# Altium footprint library QFN.PcbLib: 84 footprints (part 5 of 6)
Each footprint in its own frame and in the unit in brackets; x right, y up, seen from the top. Pads: shape width x height; smd on the part's side, far side on the other; paste and mask are expansions set on the pad; w line width, h text height; cw(c..) or ccw(c..) is an arc to the next point about the centre after c.
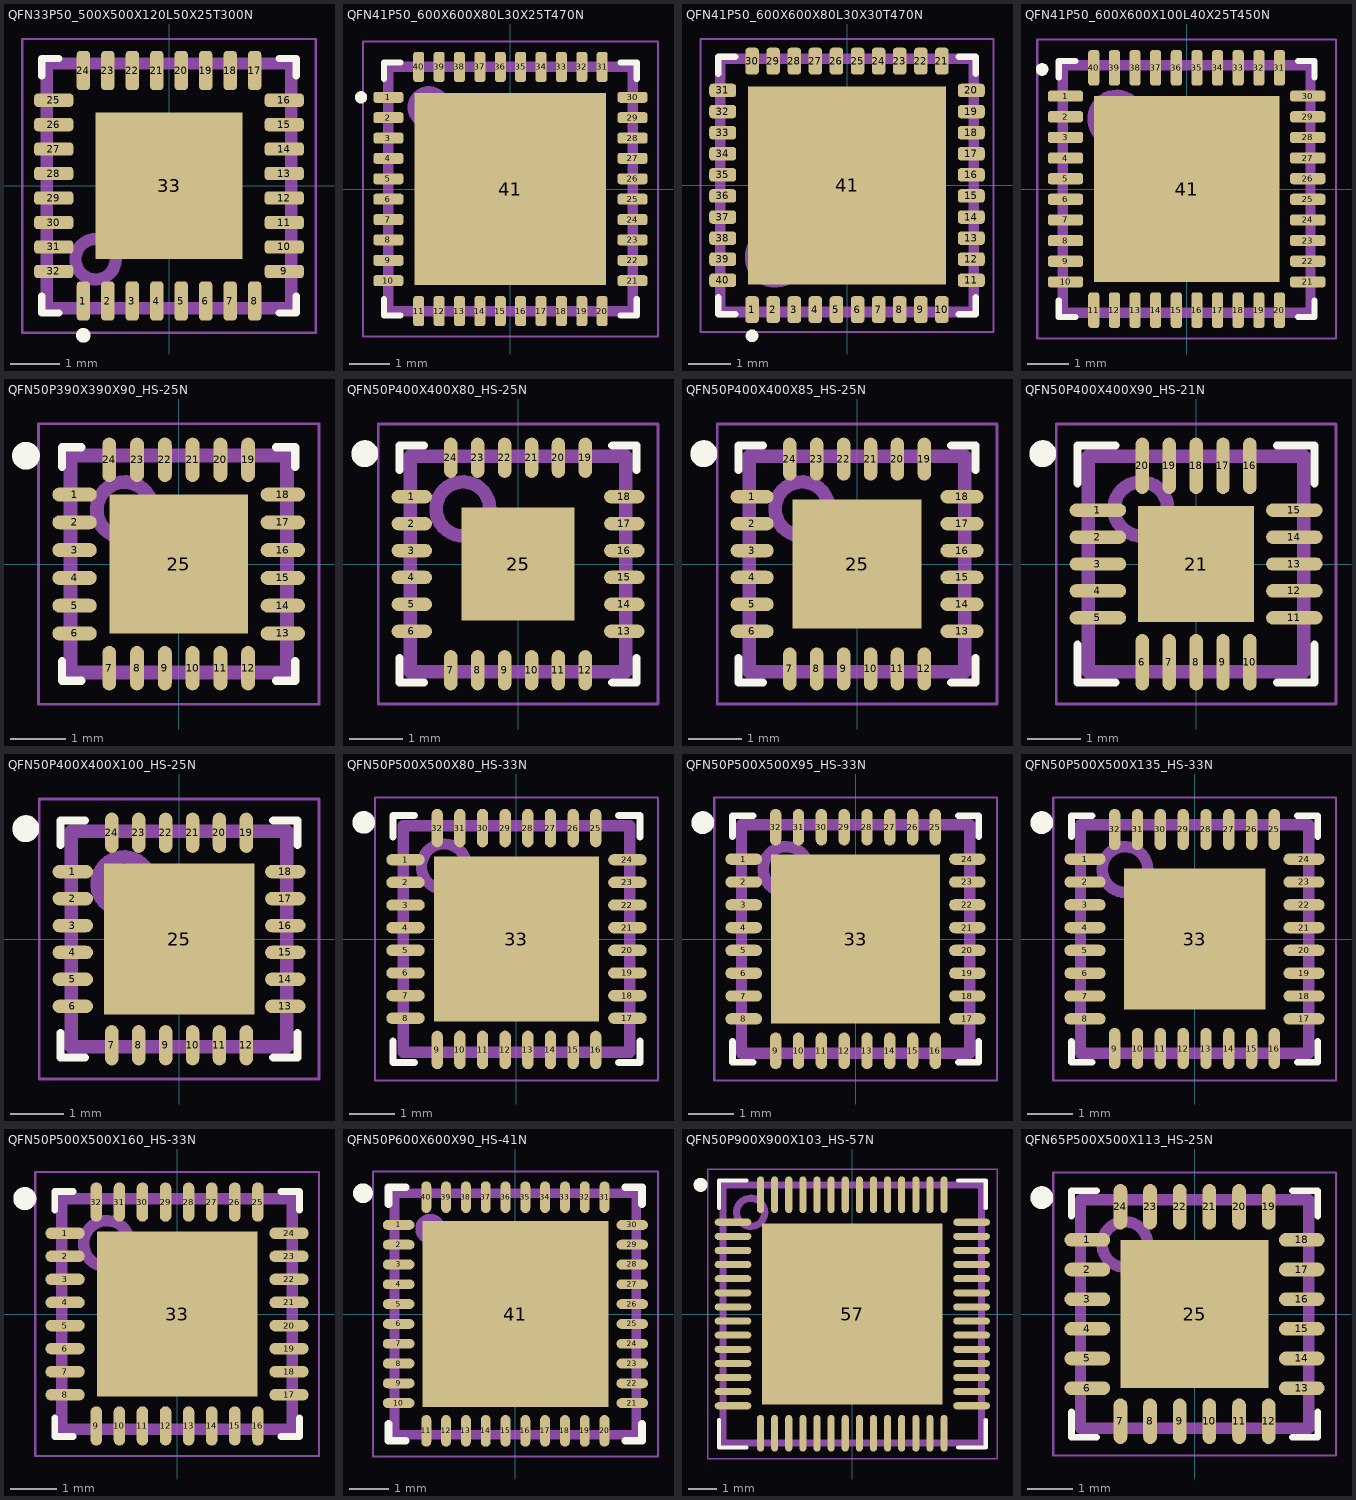
[diagram p4: the footprints below, top view; thin cyan lines are the x and y axes]

## QFN33P50_500X500X120L50X25T300N [mm] "Quad Flat No-Lead (QFN with Tab), 0.50 mm pitch; square, 8 pin X 8 pin, 5.00 mm L X 5.00 mm W X 1.20 mm H body"
height 1.2
pads (33):
  rrect52% 0.27x0.8 smd: 1(-1.75,-2.355) 2(-1.25,-2.355) 3(-0.75,-2.355) 4(-0.25,-2.355) 5(0.25,-2.355) 6(0.75,-2.355) 7(1.25,-2.355) 8(1.75,-2.355) 17(1.75,2.355) 18(1.25,2.355) 19(0.75,2.355) 20(0.25,2.355) 21(-0.25,2.355) 22(-0.75,2.355) 23(-1.25,2.355) 24(-1.75,2.355)
  rrect52% 0.8x0.27 smd: 9(2.355,-1.75) 10(2.355,-1.25) 11(2.355,-0.75) 12(2.355,-0.25) 13(2.355,0.25) 14(2.355,0.75) 15(2.355,1.25) 16(2.355,1.75) 25(-2.355,1.75) 26(-2.355,1.25) 27(-2.355,0.75) 28(-2.355,0.25) 29(-2.355,-0.25) 30(-2.355,-0.75) 31(-2.355,-1.25) 32(-2.355,-1.75)
  rect 3x3 smd paste-3: 33(0,0)
Top Overlay:
  circle w0.15: c-1.75,-3.055 r0.075
  lines w0.15: -2.6,-2.25 -2.6,-2.6 -2.25,-2.6 ; -2.6,2.25 -2.6,2.6 -2.25,2.6 ; 2.25,-2.6 2.6,-2.6 2.6,-2.25 ; 2.25,2.6 2.6,2.6 2.6,2.25
Top Paste:
  region: -0.22,0.22 -1.28,0.22 -1.28,1.28 -0.22,1.28
  region: -0.22,-1.28 -1.28,-1.28 -1.28,-0.22 -0.22,-0.22
  region: 1.28,0.22 0.22,0.22 0.22,1.28 1.28,1.28
  region: 1.28,-1.28 0.22,-1.28 0.22,-0.22 1.28,-0.22
Top Assembly:
  circle w0.25: c-1.5,-1.5 r0.412
  lines w0.25: -2.5,-2.5 2.5,-2.5 2.5,2.5 -2.5,2.5 -2.5,-2.5
  text ".Designator" at -3.378,-0.339 h1.5
Top Courtyard:
  circle w0.05: c0,0 r0.25
  lines w0.05: -0.35,0 0.35,0 ; 0,-0.35 0,0.35 ; -3,-3 3,-3 3,3 -3,3 -3,-3
3D body "QFN33P50_500X500X120L50X25T300.STEP": height 1.2, standoff 0, extent -2.55,-2.55 2.55,2.55

## QFN41P50_600X600X80L30X25T470N [mm] "Quad Flat No-Lead (QFN with Tab), 0.50 mm pitch; square, 10 pin X 10 pin, 6.00 mm L X 6.00 mm W X 0.80 mm H body"
height 0.8
pads (41):
  rrect52% 0.74x0.27 smd: 1(-2.995,2.25) 2(-2.995,1.75) 3(-2.995,1.25) 4(-2.995,0.75) 5(-2.995,0.25) 6(-2.995,-0.25) 7(-2.995,-0.75) 8(-2.995,-1.25) 9(-2.995,-1.75) 10(-2.995,-2.25) 21(2.995,-2.25) 22(2.995,-1.75) 23(2.995,-1.25) 24(2.995,-0.75) 25(2.995,-0.25) 26(2.995,0.25) 27(2.995,0.75) 28(2.995,1.25) 29(2.995,1.75) 30(2.995,2.25)
  rrect52% 0.27x0.74 smd: 11(-2.25,-2.995) 12(-1.75,-2.995) 13(-1.25,-2.995) 14(-0.75,-2.995) 15(-0.25,-2.995) 16(0.25,-2.995) 17(0.75,-2.995) 18(1.25,-2.995) 19(1.75,-2.995) 20(2.25,-2.995) 31(2.25,2.995) 32(1.75,2.995) 33(1.25,2.995) 34(0.75,2.995) 35(0.25,2.995) 36(-0.25,2.995) 37(-0.75,2.995) 38(-1.25,2.995) 39(-1.75,2.995) 40(-2.25,2.995)
  rect 4.7x4.7 smd paste-4.7: 41(0,0)
Top Overlay:
  circle w0.15: c-3.665,2.25 r0.075
  lines w0.15: -3.1,-2.7 -3.1,-3.1 -2.7,-3.1 ; -3.1,2.7 -3.1,3.1 -2.7,3.1 ; 2.7,-3.1 3.1,-3.1 3.1,-2.7 ; 2.7,3.1 3.1,3.1 3.1,2.7
Top Paste:
  region: 0.345,0.345 0.345,2.005 2.005,2.005 2.005,0.345
  region: -2.005,0.345 -2.005,2.005 -0.345,2.005 -0.345,0.345
  region: 0.345,-2.005 0.345,-0.345 2.005,-0.345 2.005,-2.005
  region: -2.005,-2.005 -2.005,-0.345 -0.345,-0.345 -0.345,-2.005
Top Assembly:
  circle w0.25: c-2,2 r0.4
  lines w0.25: -3,-3 3,-3 3,3 -3,3 -3,-3
  text ".Designator" at -3.378,-0.339 h1.5
Top Courtyard:
  circle w0.05: c0,0 r0.25
  lines w0.05: -0.35,0 0.35,0 ; 0,-0.35 0,0.35 ; -3.62,-3.62 3.62,-3.62 3.62,3.62 -3.62,3.62 -3.62,-3.62
3D body "QFN41P50_600X600X80L30X25T470.STEP": height 0.8, standoff 0, extent -3.05,-3.05 3.05,3.05

## QFN41P50_600X600X80L30X30T470N [mm] "Quad Flat No-Lead (QFN with Tab), 0.50 mm pitch; square, 10 pin X 10 pin, 6.00 mm L X 6.00 mm W X 0.80 mm H body"
height 0.8
pads (41):
  rrect50% 0.32x0.64 smd: 1(-2.25,-2.945) 2(-1.75,-2.945) 3(-1.25,-2.945) 4(-0.75,-2.945) 5(-0.25,-2.945) 6(0.25,-2.945) 7(0.75,-2.945) 8(1.25,-2.945) 9(1.75,-2.945) 10(2.25,-2.945) 21(2.25,2.945) 22(1.75,2.945) 23(1.25,2.945) 24(0.75,2.945) 25(0.25,2.945) 26(-0.25,2.945) 27(-0.75,2.945) 28(-1.25,2.945) 29(-1.75,2.945) 30(-2.25,2.945)
  rrect50% 0.64x0.32 smd: 11(2.945,-2.25) 12(2.945,-1.75) 13(2.945,-1.25) 14(2.945,-0.75) 15(2.945,-0.25) 16(2.945,0.25) 17(2.945,0.75) 18(2.945,1.25) 19(2.945,1.75) 20(2.945,2.25) 31(-2.945,2.25) 32(-2.945,1.75) 33(-2.945,1.25) 34(-2.945,0.75) 35(-2.945,0.25) 36(-2.945,-0.25) 37(-2.945,-0.75) 38(-2.945,-1.25) 39(-2.945,-1.75) 40(-2.945,-2.25)
  rect 4.7x4.7 smd paste-4.7: 41(0,0)
Top Overlay:
  circle w0.15: c-2.25,-3.565 r0.075
  lines w0.15: -3.05,-2.65 -3.05,-3.05 -2.65,-3.05 ; -3.05,2.65 -3.05,3.05 -2.65,3.05 ; 2.65,-3.05 3.05,-3.05 3.05,-2.65 ; 2.65,3.05 3.05,3.05 3.05,2.65
Top Paste:
  region: 2.005,-2.005 0.345,-2.005 0.345,-0.345 2.005,-0.345
  region: 2.005,0.345 0.345,0.345 0.345,2.005 2.005,2.005
  region: -0.345,-2.005 -2.005,-2.005 -2.005,-0.345 -0.345,-0.345
  region: -0.345,0.345 -2.005,0.345 -2.005,2.005 -0.345,2.005
Top Assembly:
  circle w0.25: c-1.7,-1.7 r0.6
  lines w0.25: -3,-3 -3,3 3,3 3,-3 -3,-3
  text ".Designator" at -2.3,-0.4 h1.5
Top Courtyard:
  circle w0.05: c0,0 r0.25
  lines w0.05: -0.35,0 0.35,0 ; 0,-0.35 0,0.35 ; -3.47,-3.47 -3.47,3.47 3.47,3.47 3.47,-3.47 -3.47,-3.47
3D body "QFN41P50_600X600X80L30X30T470.STEP": height 0.8, standoff 0, extent -3.05,-3.05 3.05,3.05

## QFN41P50_600X600X100L40X25T450N [mm] "Quad Flat No-Lead (QFN with Tab), 0.50 mm pitch; square, 10 pin X 10 pin, 6.00 mm L X 6.00 mm W X 1.00 mm H body"
height 1
pads (41):
  rrect52% 0.86x0.27 smd: 1(-2.935,2.25) 2(-2.935,1.75) 3(-2.935,1.25) 4(-2.935,0.75) 5(-2.935,0.25) 6(-2.935,-0.25) 7(-2.935,-0.75) 8(-2.935,-1.25) 9(-2.935,-1.75) 10(-2.935,-2.25) 21(2.935,-2.25) 22(2.935,-1.75) 23(2.935,-1.25) 24(2.935,-0.75) 25(2.935,-0.25) 26(2.935,0.25) 27(2.935,0.75) 28(2.935,1.25) 29(2.935,1.75) 30(2.935,2.25)
  rrect52% 0.27x0.86 smd: 11(-2.25,-2.935) 12(-1.75,-2.935) 13(-1.25,-2.935) 14(-0.75,-2.935) 15(-0.25,-2.935) 16(0.25,-2.935) 17(0.75,-2.935) 18(1.25,-2.935) 19(1.75,-2.935) 20(2.25,-2.935) 31(2.25,2.935) 32(1.75,2.935) 33(1.25,2.935) 34(0.75,2.935) 35(0.25,2.935) 36(-0.25,2.935) 37(-0.75,2.935) 38(-1.25,2.935) 39(-1.75,2.935) 40(-2.25,2.935)
  rect 4.5x4.5 smd paste-4.5: 41(0,0)
Top Overlay:
  region: -3.5,3.05 -3.47,3.05 -3.415,3.027 -3.373,2.985 -3.35,2.93 -3.35,2.9 -3.35,2.87 -3.373,2.815 -3.415,2.773 -3.47,2.75 -3.5,2.75 -3.53,2.75 -3.585,2.773 -3.627,2.815 -3.65,2.87 -3.65,2.9 -3.65,2.93 -3.627,2.985 -3.585,3.027 -3.53,3.05
  lines w0.15: -3.1,-2.7 -3.1,-3.1 -2.7,-3.1 ; -3.1,2.7 -3.1,3.1 -2.7,3.1 ; 2.7,-3.1 3.1,-3.1 3.1,-2.7 ; 2.7,3.1 3.1,3.1 3.1,2.7
Top Paste:
  region: -1.92,-1.92 -1.92,-0.33 -0.33,-0.33 -0.33,-1.92
  region: 0.33,-1.92 0.33,-0.33 1.92,-0.33 1.92,-1.92
  region: -1.92,0.33 -1.92,1.92 -0.33,1.92 -0.33,0.33
  region: 0.33,0.33 0.33,1.92 1.92,1.92 1.92,0.33
Top Assembly:
  circle w0.25: c-1.7,1.7 r0.583
  lines w0.25: -3,-3 -3,3 3,3 3,-3 -3,-3
  text ".Designator" at -2.704,-0.271 h1.2
Top Courtyard:
  circle w0.05: c0,0 r0.25
  lines w0.05: -0.35,0 0.35,0 ; 0,-0.35 0,0.35 ; -3.62,-3.62 -3.62,3.62 3.62,3.62 3.62,-3.62 -3.62,-3.62
3D body "QFN41P50_600X600X100L40X25T450.STEP": height 1, standoff 0, extent -3.05,-3.05 3.05,3.05

## QFN50P390X390X90_HS-25N [mm] "QFN, 24-Leads, Body 3.90x3.90mm, Pitch 0.50mm, Thermal Pad 2.50x2.50mm, IPC Medium Density"
height 0.9
pads (25):
  oval 0.8x0.25 smd: 1(-1.875,1.25) 2(-1.875,0.75) 3(-1.875,0.25) 4(-1.875,-0.25) 5(-1.875,-0.75) 6(-1.875,-1.25) 13(1.875,-1.25) 14(1.875,-0.75) 15(1.875,-0.25) 16(1.875,0.25) 17(1.875,0.75) 18(1.875,1.25)
  oval 0.25x0.8 smd: 7(-1.25,-1.875) 8(-0.75,-1.875) 9(-0.25,-1.875) 10(0.25,-1.875) 11(0.75,-1.875) 12(1.25,-1.875) 19(1.25,1.875) 20(0.75,1.875) 21(0.25,1.875) 22(-0.25,1.875) 23(-0.75,1.875) 24(-1.25,1.875)
  rect 2.5x2.5 smd: 25(0,0)
Top Overlay:
  circle w0.25: c-2.75,1.95 r0.125
  lines w0.15: -2.1,-1.75 -2.1,-2.1 -1.75,-2.1 ; -2.1,1.75 -2.1,2.1 -1.75,2.1 ; 1.75,-2.1 2.1,-2.1 2.1,-1.75 ; 1.75,2.1 2.1,2.1 2.1,1.75
Top Assembly:
  circle w0.25: c-0.975,0.975 r0.5
  lines w0.25: -1.95,-1.95 1.95,-1.95 1.95,1.95 -1.95,1.95 -1.95,-1.95
  text ".Designator" at -1,-0.718 h1.5
Top Courtyard:
  circle w0.05: c0,0 r0.3
  lines w0.05: -0.5,0 0.5,0 ; 0,-0.5 0,0.5 ; -2.525,-2.525 2.525,-2.525 2.525,2.525 -2.525,2.525 -2.525,-2.525
3D body "QFN50P390X390X90_HS-25N.step": height 0.9, standoff 0, extent -1.951,-1.951 1.951,1.951

## QFN50P400X400X80_HS-25N [mm] "QFN, 24-Leads, Body 4.00x4.00mm, Pitch 0.50mm, Thermal Pad 2.05x2.05mm, IPC Medium Density"
height 0.8
pads (25):
  oval 0.75x0.25 smd: 1(-1.975,1.25) 2(-1.975,0.75) 3(-1.975,0.25) 4(-1.975,-0.25) 5(-1.975,-0.75) 6(-1.975,-1.25) 13(1.975,-1.25) 14(1.975,-0.75) 15(1.975,-0.25) 16(1.975,0.25) 17(1.975,0.75) 18(1.975,1.25)
  oval 0.25x0.75 smd: 7(-1.25,-1.975) 8(-0.75,-1.975) 9(-0.25,-1.975) 10(0.25,-1.975) 11(0.75,-1.975) 12(1.25,-1.975) 19(1.25,1.975) 20(0.75,1.975) 21(0.25,1.975) 22(-0.25,1.975) 23(-0.75,1.975) 24(-1.25,1.975)
  rect 2.1x2.1 smd: 25(0,0)
Top Overlay:
  circle w0.25: c-2.85,2.05 r0.125
  lines w0.15: -2.2,-1.75 -2.2,-2.2 -1.75,-2.2 ; -2.2,1.75 -2.2,2.2 -1.75,2.2 ; 1.75,-2.2 2.2,-2.2 2.2,-1.75 ; 1.75,2.2 2.2,2.2 2.2,1.75
Top Assembly:
  circle w0.25: c-1.025,1.025 r0.5
  lines w0.25: -2,-2 -2,2 2,2 2,-2 -2,-2
  text ".Designator" at -1.375,-0.843 h1.5
Top Courtyard:
  circle w0.05: c0,0 r0.35
  lines w0.05: -0.5,0 0.5,0 ; 0,-0.5 0,0.5 ; -2.6,-2.6 -2.6,2.6 2.6,2.6 2.6,-2.6 -2.6,-2.6
3D body "QFN50P400X400X80_HS-25N.step": height 0.8, standoff 0, extent -2.02,-2.02 2.02,2.02

## QFN50P400X400X85_HS-25N [mm] "QFN, 24-Leads, Body 4.00x4.00mm, Pitch 0.50mm, Thermal Pad 2.40x2.40mm, IPC Medium Density"
height 0.85
pads (25):
  oval 0.8x0.25 smd: 1(-1.95,1.25) 2(-1.95,0.75) 3(-1.95,0.25) 4(-1.95,-0.25) 5(-1.95,-0.75) 6(-1.95,-1.25) 13(1.95,-1.25) 14(1.95,-0.75) 15(1.95,-0.25) 16(1.95,0.25) 17(1.95,0.75) 18(1.95,1.25)
  oval 0.25x0.8 smd: 7(-1.25,-1.95) 8(-0.75,-1.95) 9(-0.25,-1.95) 10(0.25,-1.95) 11(0.75,-1.95) 12(1.25,-1.95) 19(1.25,1.95) 20(0.75,1.95) 21(0.25,1.95) 22(-0.25,1.95) 23(-0.75,1.95) 24(-1.25,1.95)
  rect 2.4x2.4 smd: 25(0,0)
Top Overlay:
  circle w0.25: c-2.85,2.05 r0.125
  lines w0.15: -2.2,-1.75 -2.2,-2.2 -1.75,-2.2 ; -2.2,1.75 -2.2,2.2 -1.75,2.2 ; 1.75,-2.2 2.2,-2.2 2.2,-1.75 ; 1.75,2.2 2.2,2.2 2.2,1.75
Top Assembly:
  circle w0.25: c-1.025,1.025 r0.5
  lines w0.25: -2,-2 2,-2 2,2 -2,2 -2,-2
  text ".Designator" at -3.378,-0.339 h1.5
Top Courtyard:
  lines w0.05: -2.6,-2.6 2.6,-2.6 2.6,2.6 -2.6,2.6 -2.6,-2.6
  lines w0.1: -0.5,0 0.5,0 ; 0,-0.5 0,0.5
3D body "QFN50P400X400X85_HS-25N.step": height 0.85, standoff 0, extent -2.001,-2.001 2.001,2.001

## QFN50P400X400X90_HS-21N [mm] "QFN, 20-Leads, Body 4,00x4,00mm, Pitch 0,50mm, Thermal Pad 2,15x2,15mm, IPC Medium Density"
height 0.9
pads (21):
  oval 1.05x0.25 smd: 1(-1.825,1) 2(-1.825,0.5) 3(-1.825,0) 4(-1.825,-0.5) 5(-1.825,-1) 11(1.825,-1) 12(1.825,-0.5) 13(1.825,0) 14(1.825,0.5) 15(1.825,1)
  oval 0.25x1.05 smd: 6(-1,-1.825) 7(-0.5,-1.825) 8(0,-1.825) 9(0.5,-1.825) 10(1,-1.825) 16(1,1.825) 17(0.5,1.825) 18(0,1.825) 19(-0.5,1.825) 20(-1,1.825)
  rect 2.15x2.15 smd: 21(0,0)
Top Overlay:
  circle w0.25: c-2.85,2.05 r0.125
  lines w0.15: -2.2,-1.5 -2.2,-2.2 -1.5,-2.2 ; -2.2,1.5 -2.2,2.2 -1.5,2.2 ; 1.5,-2.2 2.2,-2.2 2.2,-1.5 ; 1.5,2.2 2.2,2.2 2.2,1.5
Top Assembly:
  circle w0.25: c-1.025,1.025 r0.5
  lines w0.25: -2,-2 2,-2 2,2 -2,2 -2,-2
  text ".Designator" at -3.378,-0.339 h1.5
Top Courtyard:
  lines w0.05: -2.6,-2.6 2.6,-2.6 2.6,2.6 -2.6,2.6 -2.6,-2.6
  lines w0.1: -0.5,0 0.5,0 ; 0,-0.5 0,0.5
3D body "QFN50P400X400X90_HS-21N.step": height 0.9, standoff 0, extent -2.001,-2.001 2.001,2.001

## QFN50P400X400X100_HS-25N [mm] "QFN, 24-Leads, Body 4.00x4.00mm, Pitch 0.50mm, Thermal Pad 2.80x2.80mm, IPC Medium Density"
height 1
pads (25):
  oval 0.75x0.25 smd: 1(-1.975,1.25) 2(-1.975,0.75) 3(-1.975,0.25) 4(-1.975,-0.25) 5(-1.975,-0.75) 6(-1.975,-1.25) 13(1.975,-1.25) 14(1.975,-0.75) 15(1.975,-0.25) 16(1.975,0.25) 17(1.975,0.75) 18(1.975,1.25)
  oval 0.25x0.75 smd: 7(-1.25,-1.975) 8(-0.75,-1.975) 9(-0.25,-1.975) 10(0.25,-1.975) 11(0.75,-1.975) 12(1.25,-1.975) 19(1.25,1.975) 20(0.75,1.975) 21(0.25,1.975) 22(-0.25,1.975) 23(-0.75,1.975) 24(-1.25,1.975)
  rect 2.8x2.8 smd: 25(0,0)
Top Overlay:
  circle w0.25: c-2.85,2.05 r0.125
  lines w0.15: -2.2,-1.75 -2.2,-2.2 -1.75,-2.2 ; -2.2,1.75 -2.2,2.2 -1.75,2.2 ; 1.75,-2.2 2.2,-2.2 2.2,-1.75 ; 1.75,2.2 2.2,2.2 2.2,1.75
Top Assembly:
  circle w0.25: c-1.025,1.025 r0.5
  lines w0.25: -2,-2 2,-2 2,2 -2,2 -2,-2
  text ".Designator" at -1.75,-0.843 h1.5
Top Courtyard:
  lines w0.05: -2.6,-2.6 2.6,-2.6 2.6,2.6 -2.6,2.6 -2.6,-2.6
  lines w0.1: -0.5,0 0.5,0 ; 0,-0.5 0,0.5
3D body "QFN50P400X400X100_HS-25N.step": height 1, standoff 0, extent -2.001,-2.001 2.001,2.001

## QFN50P500X500X80_HS-33N [mm] "QFN, 32-Leads, Body 5.00x5.00mm, Pitch 0.50mm, Thermal Pad 3.65x3.65mm, IPC Medium Density"
height 0.8
pads (33):
  oval 0.85x0.25 smd: 1(-2.45,1.75) 2(-2.45,1.25) 3(-2.45,0.75) 4(-2.45,0.25) 5(-2.45,-0.25) 6(-2.45,-0.75) 7(-2.45,-1.25) 8(-2.45,-1.75) 17(2.45,-1.75) 18(2.45,-1.25) 19(2.45,-0.75) 20(2.45,-0.25) 21(2.45,0.25) 22(2.45,0.75) 23(2.45,1.25) 24(2.45,1.75)
  oval 0.25x0.85 smd: 9(-1.75,-2.45) 10(-1.25,-2.45) 11(-0.75,-2.45) 12(-0.25,-2.45) 13(0.25,-2.45) 14(0.75,-2.45) 15(1.25,-2.45) 16(1.75,-2.45) 25(1.75,2.45) 26(1.25,2.45) 27(0.75,2.45) 28(0.25,2.45) 29(-0.25,2.45) 30(-0.75,2.45) 31(-1.25,2.45) 32(-1.75,2.45)
  rect 3.65x3.65 smd: 33(0,0)
Top Overlay:
  circle w0.25: c-3.375,2.575 r0.125
  lines w0.15: -2.725,-2.25 -2.725,-2.725 -2.25,-2.725 ; -2.725,2.25 -2.725,2.725 -2.25,2.725 ; 2.25,-2.725 2.725,-2.725 2.725,-2.25 ; 2.25,2.725 2.725,2.725 2.725,2.25
Top Assembly:
  circle w0.25: c-1.6,1.6 r0.5
  lines w0.25: -2.5,-2.5 -2.5,2.5 2.5,2.5 2.5,-2.5 -2.5,-2.5
  text ".Designator" at -1.6,-0.718 h1.5
Top Courtyard:
  circle w0.05: c0,0 r0.35
  lines w0.05: -0.5,0 0.5,0 ; 0,-0.5 0,0.5 ; -3.125,-3.125 3.125,-3.125 3.125,3.125 -3.125,3.125 -3.125,-3.125
3D body "QFN50P500X500X80_HS-33N.step": height 0.8, standoff 0, extent -2.576,-2.576 2.576,2.576

## QFN50P500X500X95_HS-33N [mm] "QFN, 32-Leads, Body 5.00x5.00mm, Pitch 0.50mm, Thermal Pad 3.70x3.70mm, IPC Medium Density"
height 0.95
pads (33):
  oval 0.8x0.25 smd: 1(-2.45,1.75) 2(-2.45,1.25) 3(-2.45,0.75) 4(-2.45,0.25) 5(-2.45,-0.25) 6(-2.45,-0.75) 7(-2.45,-1.25) 8(-2.45,-1.75) 17(2.45,-1.75) 18(2.45,-1.25) 19(2.45,-0.75) 20(2.45,-0.25) 21(2.45,0.25) 22(2.45,0.75) 23(2.45,1.25) 24(2.45,1.75)
  oval 0.25x0.8 smd: 9(-1.75,-2.45) 10(-1.25,-2.45) 11(-0.75,-2.45) 12(-0.25,-2.45) 13(0.25,-2.45) 14(0.75,-2.45) 15(1.25,-2.45) 16(1.75,-2.45) 25(1.75,2.45) 26(1.25,2.45) 27(0.75,2.45) 28(0.25,2.45) 29(-0.25,2.45) 30(-0.75,2.45) 31(-1.25,2.45) 32(-1.75,2.45)
  rect 3.7x3.7 smd paste+0 mask+0: 33(0,0)
Top Overlay:
  circle w0.25: c-3.35,2.55 r0.125
  lines w0.15: -2.7,-2.25 -2.7,-2.7 -2.25,-2.7 ; -2.7,2.25 -2.7,2.7 -2.25,2.7 ; 2.25,-2.7 2.7,-2.7 2.7,-2.25 ; 2.25,2.7 2.7,2.7 2.7,2.25
Top Assembly:
  circle w0.25: c-1.525,1.525 r0.5
  lines w0.25: -2.5,-2.5 2.5,-2.5 2.5,2.5 -2.5,2.5 -2.5,-2.5
  text ".Designator" at -3.378,-0.339 h1.5
Top Courtyard:
  lines w0.05: -0.5,0 0.5,0 ; 0,-0.5 0,0.5 ; -3.1,-3.1 3.1,-3.1 3.1,3.1 -3.1,3.1 -3.1,-3.1
3D body "QFN50P500X500X95_HS-33N.step": height 0.95, standoff 0, extent -2.501,-2.501 2.501,2.501

## QFN50P500X500X135_HS-33N [mm] "QFN, 32-Leads, Body 5.00x5.00mm, Pitch 0.50mm, Thermal Pad 3.10x3.10mm, IPC Medium Density"
height 1.35
pads (33):
  oval 0.9x0.25 smd: 1(-2.4,1.75) 2(-2.4,1.25) 3(-2.4,0.75) 4(-2.4,0.25) 5(-2.4,-0.25) 6(-2.4,-0.75) 7(-2.4,-1.25) 8(-2.4,-1.75) 17(2.4,-1.75) 18(2.4,-1.25) 19(2.4,-0.75) 20(2.4,-0.25) 21(2.4,0.25) 22(2.4,0.75) 23(2.4,1.25) 24(2.4,1.75)
  oval 0.25x0.9 smd: 9(-1.75,-2.4) 10(-1.25,-2.4) 11(-0.75,-2.4) 12(-0.25,-2.4) 13(0.25,-2.4) 14(0.75,-2.4) 15(1.25,-2.4) 16(1.75,-2.4) 25(1.75,2.4) 26(1.25,2.4) 27(0.75,2.4) 28(0.25,2.4) 29(-0.25,2.4) 30(-0.75,2.4) 31(-1.25,2.4) 32(-1.75,2.4)
  rect 3.1x3.1 smd: 33(0,0)
Top Overlay:
  circle w0.25: c-3.35,2.55 r0.125
  lines w0.15: -2.7,-2.25 -2.7,-2.7 -2.25,-2.7 ; -2.7,2.25 -2.7,2.7 -2.25,2.7 ; 2.25,-2.7 2.7,-2.7 2.7,-2.25 ; 2.25,2.7 2.7,2.7 2.7,2.25
Top Assembly:
  circle w0.25: c-1.525,1.525 r0.5
  lines w0.25: -2.5,-2.5 2.5,-2.5 2.5,2.5 -2.5,2.5 -2.5,-2.5
  text ".Designator" at -1.6,-0.718 h1.5
Top Courtyard:
  lines w0.05: -3.1,-3.1 3.1,-3.1 3.1,3.1 -3.1,3.1 -3.1,-3.1
  lines w0.1: -0.5,0 0.5,0 ; 0,-0.5 0,0.5
3D body "QFN50P500X500X135_HS-33N.step": height 1.35, standoff 0, extent -2.501,-2.501 2.501,2.501

## QFN50P500X500X160_HS-33N [mm] "QFN, 32-Leads, Body 5.00x5.00mm, Pitch 0.50mm, Thermal Pad 3.48x3.58mm, IPC Medium Density"
height 1.6
pads (33):
  oval 0.85x0.25 smd: 1(-2.425,1.75) 2(-2.425,1.25) 3(-2.425,0.75) 4(-2.425,0.25) 5(-2.425,-0.25) 6(-2.425,-0.75) 7(-2.425,-1.25) 8(-2.425,-1.75) 17(2.425,-1.75) 18(2.425,-1.25) 19(2.425,-0.75) 20(2.425,-0.25) 21(2.425,0.25) 22(2.425,0.75) 23(2.425,1.25) 24(2.425,1.75)
  oval 0.25x0.85 smd: 9(-1.75,-2.425) 10(-1.25,-2.425) 11(-0.75,-2.425) 12(-0.25,-2.425) 13(0.25,-2.425) 14(0.75,-2.425) 15(1.25,-2.425) 16(1.75,-2.425) 25(1.75,2.425) 26(1.25,2.425) 27(0.75,2.425) 28(0.25,2.425) 29(-0.25,2.425) 30(-0.75,2.425) 31(-1.25,2.425) 32(-1.75,2.425)
  rect 3.48x3.58 smd: 33(0,0)
Top Overlay:
  circle w0.25: c-3.3,2.5 r0.125
  lines w0.15: -2.65,-2.25 -2.65,-2.65 -2.25,-2.65 ; -2.65,2.25 -2.65,2.65 -2.25,2.65 ; 2.25,-2.65 2.65,-2.65 2.65,-2.25 ; 2.25,2.65 2.65,2.65 2.65,2.25
Top Assembly:
  circle w0.25: c-1.525,1.525 r0.5
  lines w0.25: -2.5,-2.5 2.5,-2.5 2.5,2.5 -2.5,2.5 -2.5,-2.5
  text ".Designator" at -3.378,-0.339 h1.5
Top Courtyard:
  lines w0.05: -3.075,-3.075 3.075,-3.075 3.075,3.075 -3.075,3.075 -3.075,-3.075
  lines w0.1: -0.5,0 0.5,0 ; 0,-0.5 0,0.5
3D body "QFN50P500X500X160_HS-33N.step": height 1.6, standoff 0, extent -2.501,-2.501 2.501,2.501

## QFN50P600X600X90_HS-41N [mm] "QFN, 40-Leads, Body 6.00x6.00mm, Pitch 0.50mm, Thermal Pad 4.70x4.70mm, IPC Medium Density"
height 0.9
pads (41):
  oval 0.8x0.25 smd: 1(-2.95,2.25) 2(-2.95,1.75) 3(-2.95,1.25) 4(-2.95,0.75) 5(-2.95,0.25) 6(-2.95,-0.25) 7(-2.95,-0.75) 8(-2.95,-1.25) 9(-2.95,-1.75) 10(-2.95,-2.25) 21(2.95,-2.25) 22(2.95,-1.75) 23(2.95,-1.25) 24(2.95,-0.75) 25(2.95,-0.25) 26(2.95,0.25) 27(2.95,0.75) 28(2.95,1.25) 29(2.95,1.75) 30(2.95,2.25)
  oval 0.25x0.8 smd: 11(-2.25,-2.95) 12(-1.75,-2.95) 13(-1.25,-2.95) 14(-0.75,-2.95) 15(-0.25,-2.95) 16(0.25,-2.95) 17(0.75,-2.95) 18(1.25,-2.95) 19(1.75,-2.95) 20(2.25,-2.95) 31(2.25,2.95) 32(1.75,2.95) 33(1.25,2.95) 34(0.75,2.95) 35(0.25,2.95) 36(-0.25,2.95) 37(-0.75,2.95) 38(-1.25,2.95) 39(-1.75,2.95) 40(-2.25,2.95)
  rect 4.7x4.7 smd: 41(0,0)
Top Overlay:
  circle w0.25: c-3.85,3.05 r0.125
  lines w0.2: -3.2,-2.775 -3.2,-3.2 -2.775,-3.2 ; -3.2,2.775 -3.2,3.2 -2.775,3.2 ; 2.775,-3.2 3.2,-3.2 3.2,-2.775 ; 2.775,3.2 3.2,3.2 3.2,2.775
Top Assembly:
  circle w0.25: c-2.15,2.15 r0.255
  lines w0.25: -3.05,-3.05 -3.05,3.05 3.05,3.05 3.05,-3.05 -3.05,-3.05
  text ".Designator" at -2.5,-0.3 h1.5
Top Courtyard:
  lines w0.05: -3.6,-3.6 -3.6,3.6 3.6,3.6 3.6,-3.6 -3.6,-3.6
  lines w0.1: -0.5,0 0.5,0 ; 0,-0.5 0,0.5
3D body "QFN50P600X600X90_HS-41N.step": height 0.9, standoff 0, extent -3.051,-3.051 3.051,3.051

## QFN50P900X900X103_HS-57N [mm] "QFN, 56-Leads, Body 9.00x9.00mm, Pitch 0.50mm, Thermal Pad 6.40x6.40mm, IPC Medium Density"
height 1.03
pads (57):
  oval 1.3x0.25 smd: 1(-4.225,3.25) 2(-4.225,2.75) 3(-4.225,2.25) 4(-4.225,1.75) 5(-4.225,1.25) 6(-4.225,0.75) 7(-4.225,0.25) 8(-4.225,-0.25) 9(-4.225,-0.75) 10(-4.225,-1.25) 11(-4.225,-1.75) 12(-4.225,-2.25) 13(-4.225,-2.75) 14(-4.225,-3.25) 29(4.225,-3.25) 30(4.225,-2.75) 31(4.225,-2.25) 32(4.225,-1.75) 33(4.225,-1.25) 34(4.225,-0.75) 35(4.225,-0.25) 36(4.225,0.25) 37(4.225,0.75) 38(4.225,1.25) 39(4.225,1.75) 40(4.225,2.25) 41(4.225,2.75) 42(4.225,3.25)
  oval 0.25x1.3 smd: 15(-3.25,-4.225) 16(-2.75,-4.225) 17(-2.25,-4.225) 18(-1.75,-4.225) 19(-1.25,-4.225) 20(-0.75,-4.225) 21(-0.25,-4.225) 22(0.25,-4.225) 23(0.75,-4.225) 24(1.25,-4.225) 25(1.75,-4.225) 26(2.25,-4.225) 27(2.75,-4.225) 28(3.25,-4.225) 43(3.25,4.225) 44(2.75,4.225) 45(2.25,4.225) 46(1.75,4.225) 47(1.25,4.225) 48(0.75,4.225) 49(0.25,4.225) 50(-0.25,4.225) 51(-0.75,4.225) 52(-1.25,4.225) 53(-1.75,4.225) 54(-2.25,4.225) 55(-2.75,4.225) 56(-3.25,4.225)
  rect 6.4x6.4 smd: 57(0,0)
Top Overlay:
  circle w0.25: c-5.375,4.575 r0.125
  lines w0.15: -4.725,-3.75 -4.725,-4.725 -3.75,-4.725 ; -4.725,3.75 -4.725,4.725 -3.75,4.725 ; 3.75,-4.725 4.725,-4.725 4.725,-3.75 ; 3.75,4.725 4.725,4.725 4.725,3.75
Top Assembly:
  circle w0.25: c-3.6,3.6 r0.5
  lines w0.25: -4.575,-4.575 4.575,-4.575 4.575,4.575 -4.575,4.575 -4.575,-4.575
  text ".Designator" at -3.4,-0.618 h1.5
Top Courtyard:
  lines w0.05: -5.125,-5.125 5.125,-5.125 5.125,5.125 -5.125,5.125 -5.125,-5.125
  lines w0.1: -0.5,0 0.5,0 ; 0,-0.5 0,0.5
3D body "QFN50P900X900X103_HS-57N.step": height 1.03, standoff 0, extent -4.576,-4.576 4.576,4.576

## QFN65P500X500X113_HS-25N [mm] "QFN, 24-Leads, Body 5.00x5.00mm, Pitch 0.65mm, Thermal Pad 3.30x3.30mm, IPC Medium Density"
height 1.13
pads (25):
  oval 1x0.3 smd: 1(-2.35,1.625) 2(-2.35,0.975) 3(-2.35,0.325) 4(-2.35,-0.325) 5(-2.35,-0.975) 6(-2.35,-1.625) 13(2.35,-1.625) 14(2.35,-0.975) 15(2.35,-0.325) 16(2.35,0.325) 17(2.35,0.975) 18(2.35,1.625)
  oval 0.3x1 smd: 7(-1.625,-2.35) 8(-0.975,-2.35) 9(-0.325,-2.35) 10(0.325,-2.35) 11(0.975,-2.35) 12(1.625,-2.35) 19(1.625,2.35) 20(0.975,2.35) 21(0.325,2.35) 22(-0.325,2.35) 23(-0.975,2.35) 24(-1.625,2.35)
  rect 3.25x3.25 smd: 25(0,0)
Top Overlay:
  circle w0.25: c-3.35,2.55 r0.125
  lines w0.15: -2.7,-2.15 -2.7,-2.7 -2.15,-2.7 ; -2.7,2.15 -2.7,2.7 -2.15,2.7 ; 2.15,-2.7 2.7,-2.7 2.7,-2.15 ; 2.15,2.7 2.7,2.7 2.7,2.15
Top Assembly:
  circle w0.25: c-1.525,1.525 r0.5
  lines w0.25: -2.5,-2.5 -2.5,2.5 2.5,2.5 2.5,-2.5 -2.5,-2.5
  text ".Designator" at -1.9,-0.93 h2.5
Top Courtyard:
  circle w0.05: c0,0 r0.3
  lines w0.05: -0.5,0 0.5,0 ; 0,-0.5 0,0.5 ; -3.1,-3.1 -3.1,3.1 3.1,3.1 3.1,-3.1 -3.1,-3.1
3D body "QFN65P500X500X113_HS-25N.step": height 1.13, standoff 0, extent -2.501,-2.501 2.501,2.501